# EAGLE library part AP-RX62T-0A (library AP-RX62T-0A)
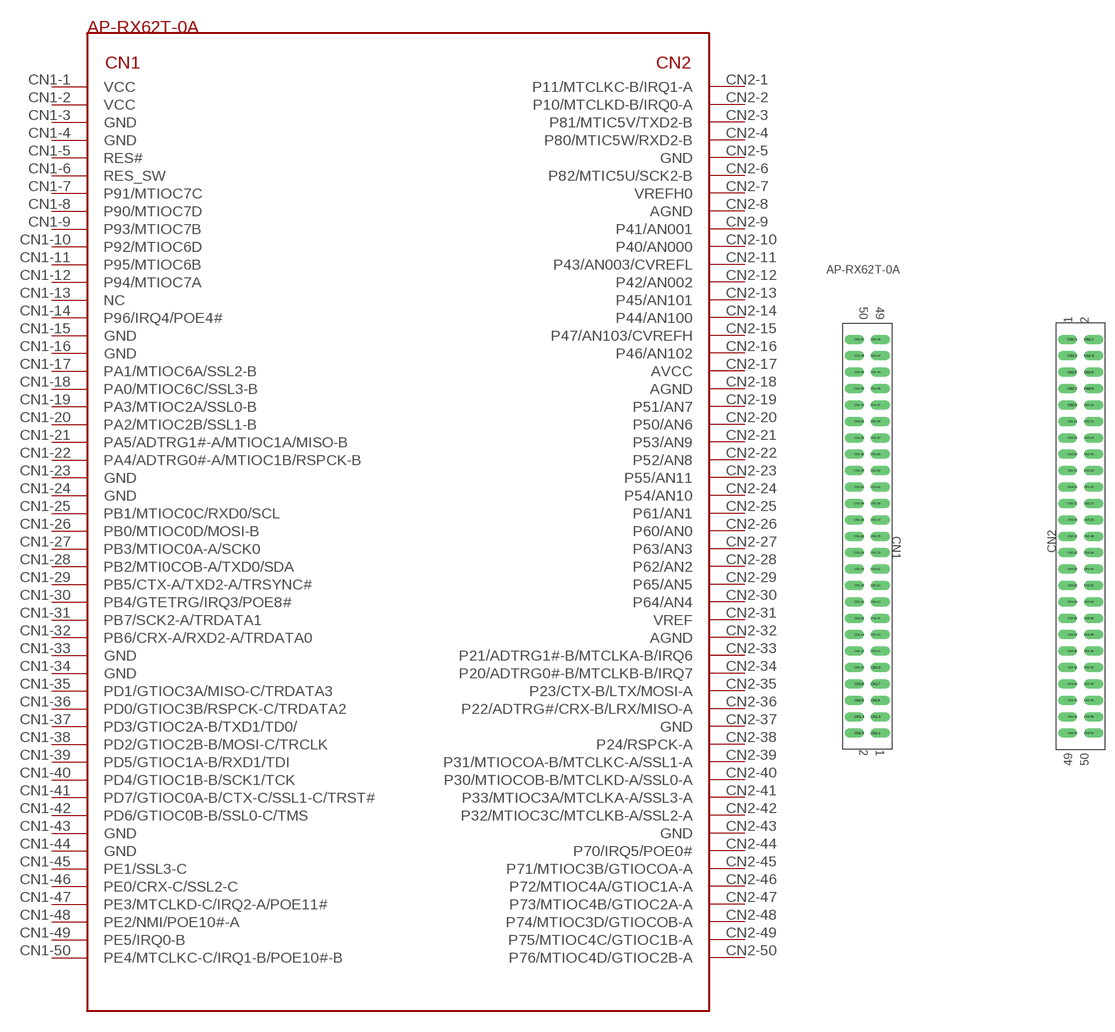
[diagram p0: symbol with the pads of AP-RX62T-0A; footprint AP-RX62T-0A]

Designator prefix -

## AP-RX62T-0A  [AP-RX62T-0A]
CN1-1  VCC  pwr
CN1-2  VCC  pwr
CN1-3  GND  pwr
CN1-4  GND  pwr
CN1-5  RES#
CN1-6  RES_SW
CN1-7  P91/MTIOC7C
CN1-8  P90/MTIOC7D
CN1-9  P93/MTIOC7B
CN1-10  P92/MTIOC6D
CN1-11  P95/MTIOC6B
CN1-12  P94/MTIOC7A
CN1-13  NC
CN1-14  P96/IRQ4/POE4#
CN1-15  GND  pwr
CN1-16  GND  pwr
CN1-17  PA1/MTIOC6A/SSL2-B
CN1-18  PA0/MTIOC6C/SSL3-B
CN1-19  PA3/MTIOC2A/SSL0-B
CN1-20  PA2/MTIOC2B/SSL1-B
CN1-21  PA5/ADTRG1#-A/MTIOC1A/MISO-B
CN1-22  PA4/ADTRG0#-A/MTIOC1B/RSPCK-B
CN1-23  GND  pwr
CN1-24  GND  pwr
CN1-25  PB1/MTIOC0C/RXD0/SCL
CN1-26  PB0/MTIOC0D/MOSI-B
CN1-27  PB3/MTIOC0A-A/SCK0
CN1-28  PB2/MTI0COB-A/TXD0/SDA
CN1-29  PB5/CTX-A/TXD2-A/TRSYNC#
CN1-30  PB4/GTETRG/IRQ3/POE8#
CN1-31  PB7/SCK2-A/TRDATA1
CN1-32  PB6/CRX-A/RXD2-A/TRDATA0
CN1-33  GND  pwr
CN1-34  GND  pwr
CN1-35  PD1/GTIOC3A/MISO-C/TRDATA3
CN1-36  PD0/GTIOC3B/RSPCK-C/TRDATA2
CN1-37  PD3/GTIOC2A-B/TXD1/TD0/
CN1-38  PD2/GTIOC2B-B/MOSI-C/TRCLK
CN1-39  PD5/GTIOC1A-B/RXD1/TDI
CN1-40  PD4/GTIOC1B-B/SCK1/TCK
CN1-41  PD7/GTIOC0A-B/CTX-C/SSL1-C/TRST#
CN1-42  PD6/GTIOC0B-B/SSL0-C/TMS
CN1-43  GND  pwr
CN1-44  GND  pwr
CN1-45  PE1/SSL3-C
CN1-46  PE0/CRX-C/SSL2-C
CN1-47  PE3/MTCLKD-C/IRQ2-A/POE11#
CN1-48  PE2/NMI/POE10#-A
CN1-49  PE5/IRQ0-B
CN1-50  PE4/MTCLKC-C/IRQ1-B/POE10#-B
CN2-1  P11/MTCLKC-B/IRQ1-A
CN2-2  P10/MTCLKD-B/IRQ0-A
CN2-3  P81/MTIC5V/TXD2-B
CN2-4  P80/MTIC5W/RXD2-B
CN2-5  GND  pwr
CN2-6  P82/MTIC5U/SCK2-B
CN2-7  VREFH0
CN2-8  AGND  pwr
CN2-9  P41/AN001
CN2-10  P40/AN000
CN2-11  P43/AN003/CVREFL
CN2-12  P42/AN002
CN2-13  P45/AN101
CN2-14  P44/AN100
CN2-15  P47/AN103/CVREFH
CN2-16  P46/AN102
CN2-17  AVCC  pwr
CN2-18  AGND  pwr
CN2-19  P51/AN7
CN2-20  P50/AN6
CN2-21  P53/AN9
CN2-22  P52/AN8
CN2-23  P55/AN11
CN2-24  P54/AN10
CN2-25  P61/AN1
CN2-26  P60/AN0
CN2-27  P63/AN3
CN2-28  P62/AN2
CN2-29  P65/AN5
CN2-30  P64/AN4
CN2-31  VREF
CN2-32  AGND  pwr
CN2-33  P21/ADTRG1#-B/MTCLKA-B/IRQ6
CN2-34  P20/ADTRG0#-B/MTCLKB-B/IRQ7
CN2-35  P23/CTX-B/LTX/MOSI-A
CN2-36  P22/ADTRG#/CRX-B/LRX/MISO-A
CN2-37  GND  pwr
CN2-38  P24/RSPCK-A
CN2-39  P31/MTIOCOA-B/MTCLKC-A/SSL1-A
CN2-40  P30/MTIOCOB-B/MTCLKD-A/SSL0-A
CN2-41  P33/MTIOC3A/MTCLKA-A/SSL3-A
CN2-42  P32/MTIOC3C/MTCLKB-A/SSL2-A
CN2-43  GND  pwr
CN2-44  P70/IRQ5/POE0#
CN2-45  P71/MTIOC3B/GTIOCOA-A
CN2-46  P72/MTIOC4A/GTIOC1A-A
CN2-47  P73/MTIOC4B/GTIOC2A-A
CN2-48  P74/MTIOC3D/GTIOCOB-A
CN2-49  P75/MTIOC4C/GTIOC1B-A
CN2-50  P76/MTIOC4D/GTIOC2B-A

## Footprint AP-RX62T-0A (pad centres in mm)
drill 1 offset: CN1-1 -15.24,-33.02; CN1-2 -17.78,-33.02; CN1-3 -15.24,-30.48; CN1-4 -17.78,-30.48; CN1-5 -15.24,-27.94; CN1-6 -17.78,-27.94; CN1-7 -15.24,-25.4; CN1-8 -17.78,-25.4; CN1-9 -15.24,-22.86; CN1-10 -17.78,-22.86; CN1-11 -15.24,-20.32; CN1-12 -17.78,-20.32; CN1-13 -15.24,-17.78; CN1-14 -17.78,-17.78; CN1-15 -15.24,-15.24; CN1-16 -17.78,-15.24; CN1-17 -15.24,-12.7; CN1-18 -17.78,-12.7; CN1-19 -15.24,-10.16; CN1-20 -17.78,-10.16; CN1-21 -15.24,-7.62; CN1-22 -17.78,-7.62; CN1-23 -15.24,-5.08; CN1-24 -17.78,-5.08; CN1-25 -15.24,-2.54; CN1-26 -17.78,-2.54; CN1-27 -15.24,0; CN1-28 -17.78,0; CN1-29 -15.24,2.54; CN1-30 -17.78,2.54; CN1-31 -15.24,5.08; CN1-32 -17.78,5.08; CN1-33 -15.24,7.62; CN1-34 -17.78,7.62; CN1-35 -15.24,10.16; CN1-36 -17.78,10.16; CN1-37 -15.24,12.7; CN1-38 -17.78,12.7; CN1-39 -15.24,15.24; CN1-40 -17.78,15.24; CN1-41 -15.24,17.78; CN1-42 -17.78,17.78; CN1-43 -15.24,20.32; CN1-44 -17.78,20.32; CN1-45 -15.24,22.86; CN1-46 -17.78,22.86; CN1-47 -15.24,25.4; CN1-48 -17.78,25.4; CN1-49 -15.24,27.94; CN1-50 -17.78,27.94; CN2-1 15.24,27.94; CN2-2 17.78,27.94; CN2-3 15.24,25.4; CN2-4 17.78,25.4; CN2-5 15.24,22.86; CN2-6 17.78,22.86; CN2-7 15.24,20.32; CN2-8 17.78,20.32; CN2-9 15.24,17.78; CN2-10 17.78,17.78; CN2-11 15.24,15.24; CN2-12 17.78,15.24; CN2-13 15.24,12.7; CN2-14 17.78,12.7; CN2-15 15.24,10.16; CN2-16 17.78,10.16; CN2-17 15.24,7.62; CN2-18 17.78,7.62; CN2-19 15.24,5.08; CN2-20 17.78,5.08; CN2-21 15.24,2.54; CN2-22 17.78,2.54; CN2-23 15.24,0; CN2-24 17.78,0; CN2-25 15.24,-2.54; CN2-26 17.78,-2.54; CN2-27 15.24,-5.08; CN2-28 17.78,-5.08; CN2-29 15.24,-7.62; CN2-30 17.78,-7.62; CN2-31 15.24,-10.16; CN2-32 17.78,-10.16; CN2-33 15.24,-12.7; CN2-34 17.78,-12.7; CN2-35 15.24,-15.24; CN2-36 17.78,-15.24; CN2-37 15.24,-17.78; CN2-38 17.78,-17.78; CN2-39 15.24,-20.32; CN2-40 17.78,-20.32; CN2-41 15.24,-22.86; CN2-42 17.78,-22.86; CN2-43 15.24,-25.4; CN2-44 17.78,-25.4; CN2-45 15.24,-27.94; CN2-46 17.78,-27.94; CN2-47 15.24,-30.48; CN2-48 17.78,-30.48; CN2-49 15.24,-33.02; CN2-50 17.78,-33.02